# Altium footprint library HDR.PcbLib: 7 footprints
Each footprint in its own frame and in the unit in brackets; x right, y up, seen from the top. Pads: shape width x height; smd on the part's side, far side on the other; paste and mask are expansions set on the pad; w line width, h text height; cw(c..) or ccw(c..) is an arc to the next point about the centre after c.
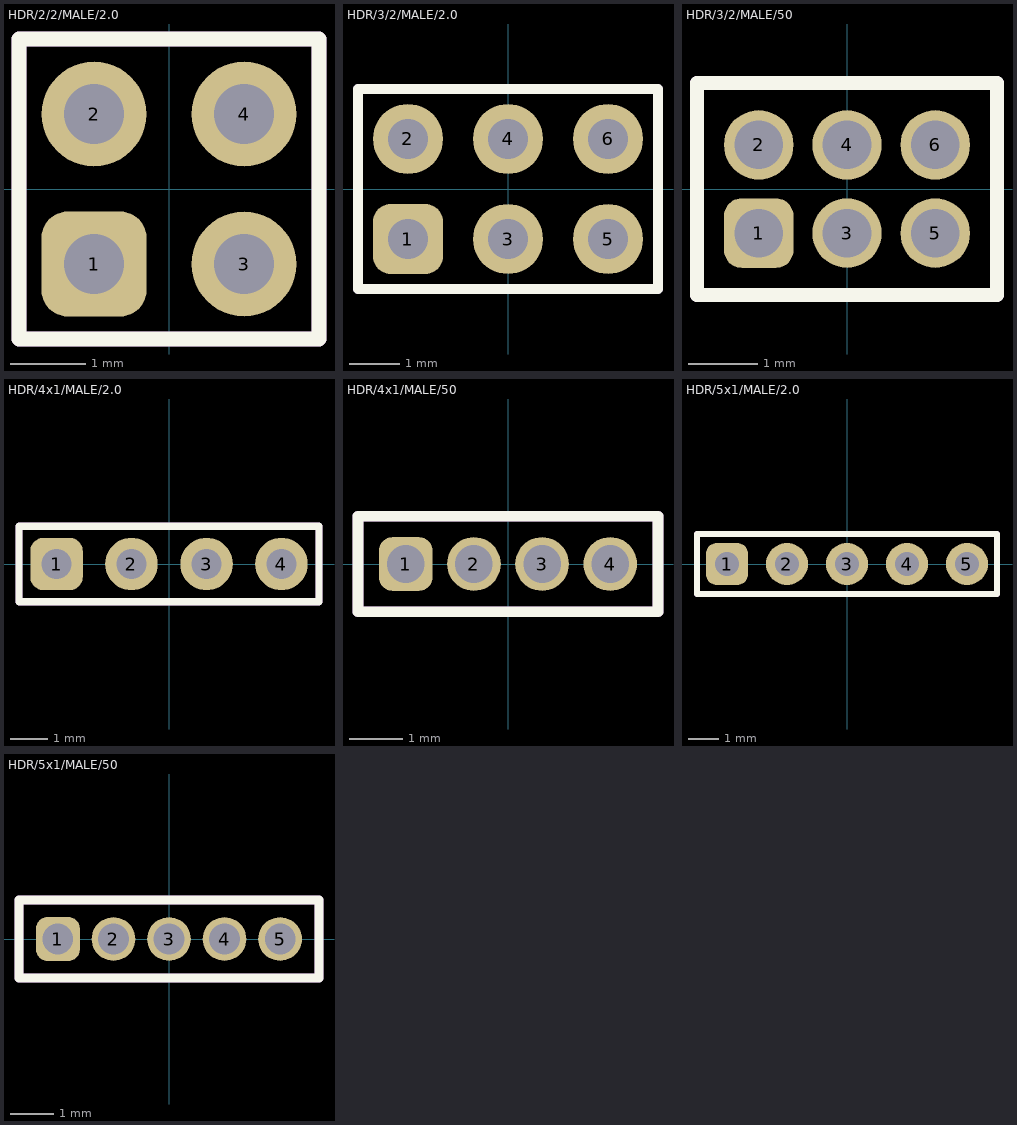
[diagram p0: the footprints below, top view; thin cyan lines are the x and y axes]

## HDR/2/2/MALE/2.0 [mm]
pads (4):
  rrect50% 1.4x1.4 hole 0.8: 1(-1,-1)
  round 1.4 hole 0.8: 2(-1,1) 3(1,-1) 4(1,1)
Top Overlay:
  lines w0.2: -2,-2 -2,2 2,2 2,-2 -2,-2
Mechanical 1:
  lines w0.2: -2,-2 -2,2 2,2 2,-2 -2,-2
3D body "pin_header_a-sl200-eg-g02d.stp": height 6, standoff -2.8, extent 0,-1.975 2,1.975
3D body "pin_header_a-sl200-eg-g02d.stp": height 6, standoff -2.8, extent -2,-1.975 0,1.975

## HDR/3/2/MALE/2.0 [mm]
pads (6):
  rrect50% 1.4x1.4 hole 0.8: 1(-2,-1)
  round 1.4 hole 0.8: 2(-2,1) 3(0,-1) 4(0,1) 5(2,-1) 6(2,1)
Top Overlay:
  lines w0.2: -3,-2 3,-2 3,2 -3,2 -3,-2
Mechanical 1:
  lines w0.2: -3,-2 3,-2 3,2 -3,2 -3,-2
3D body "pin_header_a-sl200-eg-g03d.stp": height 6, standoff -2.8, extent -2.975,-2 2.975,0
3D body "pin_header_a-sl200-eg-g03d.stp": height 6, standoff -2.8, extent -2.975,0 2.975,2

## HDR/3/2/MALE/50 [mm]
pads (6):
  rrect50% 1x1 hole 0.7: 1(-1.27,-0.635)
  round 1 hole 0.7: 2(-1.27,0.635) 3(0,-0.635) 4(0,0.635) 5(1.27,-0.635) 6(1.27,0.635)
Top Overlay:
  lines w0.203: -2.159,-1.524 2.159,-1.524 2.159,1.524 -2.159,1.524 -2.159,-1.524
Mechanical 1:
  lines w0.203: -2.159,-1.524 2.159,-1.524 2.159,1.524 -2.159,1.524 -2.159,-1.524

## HDR/4x1/MALE/2.0 [mm]
pads (4):
  rrect50% 1.4x1.4 hole 0.8: 1(-3,0)
  round 1.4 hole 0.8: 2(-1,0) 3(1,0) 4(3,0)
Top Overlay:
  lines w0.2: -4,-1 -4,1 4,1 4,-1 -4,-1
Mechanical 1:
  lines w0.2: -4,-1 -4,1 4,1 4,-1 -4,-1
3D body "pin_header_a-sl200-eg-g04d.stp": height 6, standoff -2.8, extent -3.975,-1 3.975,1

## HDR/4x1/MALE/50 [mm]
pads (4):
  rrect50% 1x1 hole 0.7: 1(-1.905,0)
  round 1 hole 0.7: 2(-0.635,0) 3(0.635,0) 4(1.905,0)
Top Overlay:
  lines w0.203: -2.794,-0.889 2.794,-0.889 2.794,0.889 -2.794,0.889 -2.794,-0.889
Mechanical 1:
  lines w0.203: -2.794,-0.889 2.794,-0.889 2.794,0.889 -2.794,0.889 -2.794,-0.889

## HDR/5x1/MALE/2.0 [mm]
pads (5):
  rrect50% 1.4x1.4 hole 0.8: 1(-4,0)
  round 1.4 hole 0.8: 2(-2,0) 3(0,0) 4(2,0) 5(4,0)
Top Overlay:
  lines w0.2: -5,-1 -5,1 5,1 5,-1 -5,-1
Mechanical 1:
  lines w0.2: -5,-1 -5,1 5,1 5,-1 -5,-1
3D body "pin_header_a-sl200-eg-g05d.stp": height 6, standoff -2.8, extent -4.975,-1 4.975,1

## HDR/5x1/MALE/50 [mm]
pads (5):
  rrect50% 1x1 hole 0.7: 1(-2.54,0)
  round 1 hole 0.7: 2(-1.27,0) 3(0,0) 4(1.27,0) 5(2.54,0)
Top Overlay:
  lines w0.203: -3.429,-0.889 3.429,-0.889 3.429,0.889 -3.429,0.889 -3.429,-0.889
Mechanical 1:
  lines w0.203: -3.429,-0.889 3.429,-0.889 3.429,0.889 -3.429,0.889 -3.429,-0.889